# Altium footprint library SON50P140X55-14N.PcbLib: 1 footprints
Each footprint in its own frame and in the unit in brackets; x right, y up, seen from the top. Pads: shape width x height; smd on the part's side, far side on the other; paste and mask are expansions set on the pad; w line width, h text height; cw(c..) or ccw(c..) is an arc to the next point about the centre after c.
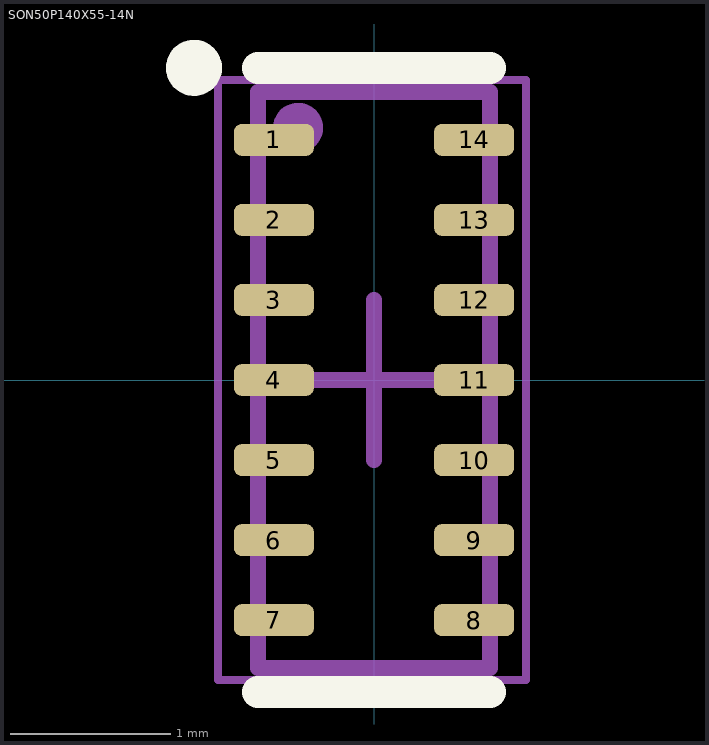
[diagram p0: the footprint, top view; thin cyan lines are the x and y axes]

## SON50P140X55-14N [mm] "SON, 14-Leads, Body 3,50x1,35mm, Pitch 0,50mm, IPC Medium Density"
height 0.55
pads (14):
  rrect50% 0.5x0.2 smd paste-0.01 mask+0.05: 1(-0.625,1.5) 2(-0.625,1) 3(-0.625,0.5) 4(-0.625,0) 5(-0.625,-0.5) 6(-0.625,-1) 7(-0.625,-1.5) 8(0.625,-1.5) 9(0.625,-1) 10(0.625,-0.5) 11(0.625,0) 12(0.625,0.5) 13(0.625,1) 14(0.625,1.5)
Top Overlay:
  circle w0.2: c-1.125,1.95 r0.075
  lines w0.2: -0.725,-1.95 0.725,-1.95 ; -0.725,1.95 0.725,1.95
Top Assembly:
  circle w0.2: c-0.475,1.575 r0.056
  lines w0.1: -0.725,-1.8 -0.725,1.8 0.725,1.8 0.725,-1.8 -0.725,-1.8
Top Courtyard:
  lines w0.05: -0.975,-1.875 -0.975,1.875 0.95,1.875 0.95,-1.875 -0.975,-1.875
  lines w0.1: -0.5,0 0.5,0 ; 0,-0.5 0,0.5
3D body: height 0.55, standoff 0, extent -0.725,-1.8 0.725,1.8